# Altium schematic symbol library ESP.SchLib: 22 symbols
Pins are listed as number, name and electrical type; pins without a type are passive.

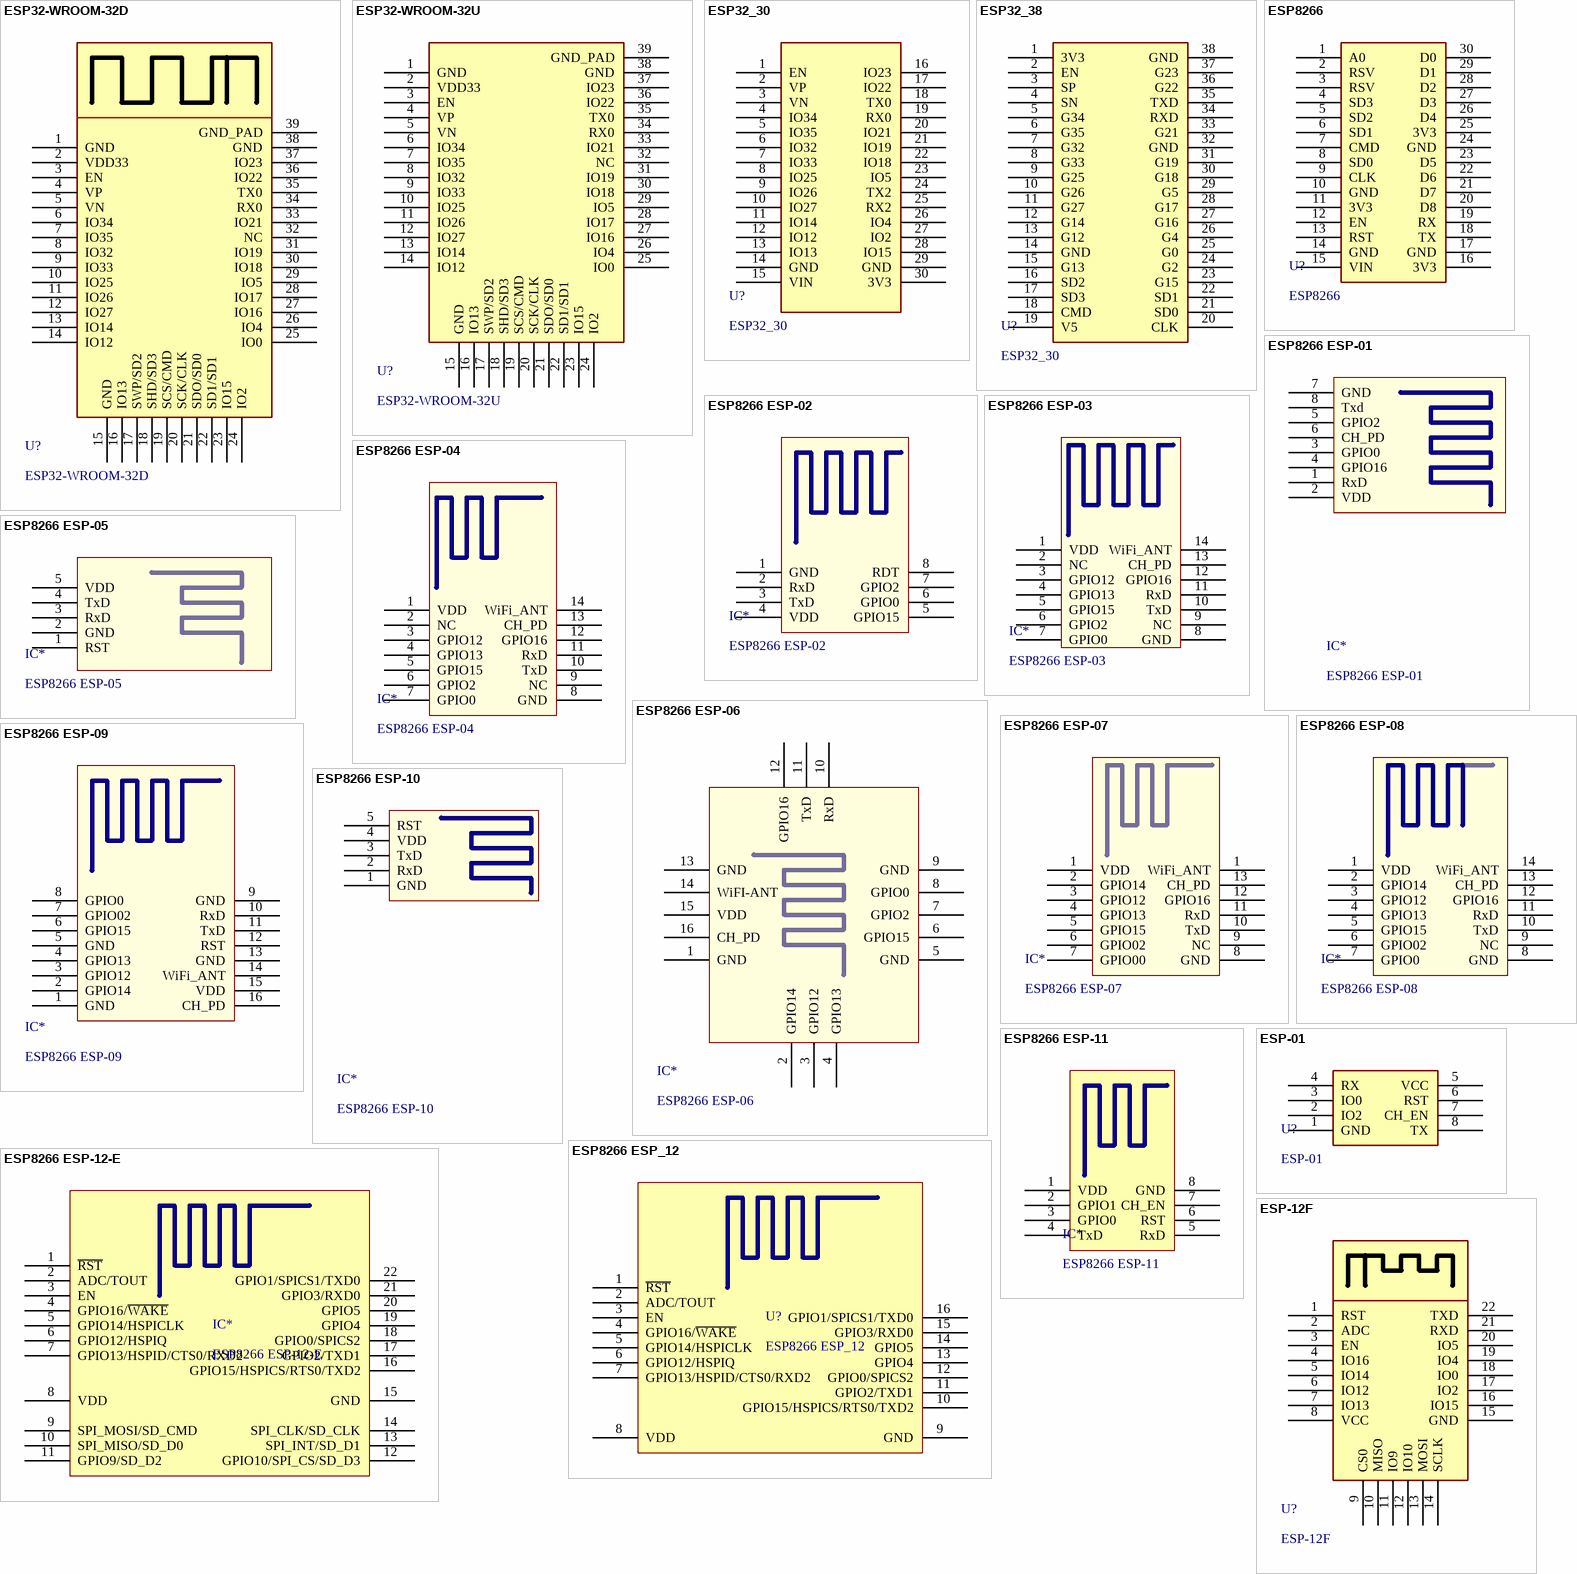
[diagram p0: symbols ESP32-WROOM-32D to ESP-12F]

## ESP32-WROOM-32D
designator U?
Chip SMD 39 Pads Wifi 2.4GHz BLE 4.2 18x25.5mm w/ Antenna.; Mouser PN: ESP32-WROOM-32D-N4; Digikey PN: 1965-ESP32-WROOM-32D-N8CT-ND; ComponentLink1Description: Datasheet; ComponentLink1URL: https://www.mouser.com/datasheet/2/891/esp32_wroom_32d_esp32_wroom_32u_datasheet_en-1365844.pdf; JLCPCB PN: C82899
footprint ESP32-WROOM-32D (Chip SMD 39 Pads 18x25.5mm w/ Antenna.)
pins: 1 GND, 2 VDD33, 3 EN, 4 VP, 5 VN, 6 IO34, 7 IO35, 8 IO32, 9 IO33, 10 IO25, 11 IO26, 12 IO27, 13 IO14, 14 IO12, 15 GND, 16 IO13, 17 SWP/SD2, 18 SHD/SD3, 19 SCS/CMD, 20 SCK/CLK, 21 SDO/SD0, 22 SD1/SD1, 23 IO15, 24 IO2, 25 IO0, 26 IO4, 27 IO16, 28 IO17, 29 IO5, 30 IO18, 31 IO19, 32 NC, 33 IO21, 34 RX0, 35 TX0, 36 IO22, 37 IO23, 38 GND, 39 GND_PAD

## ESP32-WROOM-32U
designator U?
Chip SMD 39 Pads Wifi 2.4GHz BLE 4.2 18x19.2mm w/o Antenna.
footprint ESP32-WROOM-32U (Chip SMD 39 Pads 18x19.2mm w/o Antenna.)
pins: 1 GND, 2 VDD33, 3 EN, 4 VP, 5 VN, 6 IO34, 7 IO35, 8 IO32, 9 IO33, 10 IO25, 11 IO26, 12 IO27, 13 IO14, 14 IO12, 15 GND, 16 IO13, 17 SWP/SD2, 18 SHD/SD3, 19 SCS/CMD, 20 SCK/CLK, 21 SDO/SD0, 22 SD1/SD1, 23 IO15, 24 IO2, 25 IO0, 26 IO4, 27 IO16, 28 IO17, 29 IO5, 30 IO18, 31 IO19, 32 NC, 33 IO21, 34 RX0, 35 TX0, 36 IO22, 37 IO23, 38 GND, 39 GND_PAD

## ESP32_30
designator U?
Microcontoller Board 30 Pins Wifi 2.4GHz BLE 4.2 ESP32-WROOM-32D; ComponentLink1Description: Datasheet; ComponentLink1URL: https://www.mouser.com/datasheet/2/891/esp32_wroom_32d_esp32_wroom_32u_datasheet_en-1365844.pdf
footprint ESP32_30 (Microcontoller Board 30 Pins Wifi 2.4GHz BLE 4.2 ESP32-WROOM-32D)
pins: 1 EN, 2 VP, 3 VN, 4 IO34, 5 IO35, 6 IO32, 7 IO33, 8 IO25, 9 IO26, 10 IO27, 11 IO14, 12 IO12, 13 IO13, 14 GND, 15 VIN, 16 IO23, 17 IO22, 18 TX0, 19 RX0, 20 IO21, 21 IO19, 22 IO18, 23 IO5, 24 TX2, 25 RX2, 26 IO4, 27 IO2, 28 IO15, 29 GND, 30 3V3

## ESP32_38
designator U?, comment ESP32_30
Microcontoller Board 38 Pins Wifi 2.4GHz BLE 4.2 ESP32-WROOM-32D; ComponentLink1Description: Datasheet; ComponentLink1URL: https://www.mouser.com/datasheet/2/891/esp32_wroom_32d_esp32_wroom_32u_datasheet_en-1365844.pdf
footprint ESP32_38 (Microcontoller Board 38 Pins Wifi 2.4GHz BLE 4.2 ESP32-WROOM-32D)
pins: 1 3V3, 2 EN, 3 SP, 4 SN, 5 G34, 6 G35, 7 G32, 8 G33, 9 G25, 10 G26, 11 G27, 12 G14, 13 G12, 14 GND, 15 G13, 16 SD2, 17 SD3, 18 CMD, 19 V5, 20 CLK, 21 SD0, 22 SD1, 23 G15, 24 G2, 25 G0, 26 G4, 27 G16, 28 G17, 29 G5, 30 G18, 31 G19, 32 GND, 33 G21, 34 RXD, 35 TXD, 36 G22, 37 G23, 38 GND

## ESP8266
designator U?
Microcontoller Board 30 Pins Wifi 2.4GHz BLE 4.2 ESP-12F; ComponentLink1Description: Datasheet; ComponentLink1URL: https://docs.ai-thinker.com/_media/esp8266/docs/esp-12f_product_specification_en.pdf
footprint ESP8266 (Microcontoller Board 30 Pins Wifi 2.4GHz BLE 4.2 ESP-12F)
pins: 1 A0, 2 RSV, 3 RSV, 4 SD3, 5 SD2, 6 SD1, 7 CMD, 8 SD0, 9 CLK, 10 GND, 11 3V3, 12 EN, 13 RST, 14 GND, 15 VIN, 16 3V3, 17 GND, 18 TX, 19 RX, 20 D8, 21 D7, 22 D6, 23 D5, 24 GND, 25 3V3, 26 D4, 27 D3, 28 D2, 29 D1, 30 D0

## ESP8266 ESP-01
designator IC*
footprint ESP8266 ESP-01
pins: 1 RxD, 2 VDD, 3 GPIO0, 4 GPIO16, 5 GPIO2, 6 CH_PD, 7 GND, 8 Txd

## ESP8266 ESP-02
designator IC*
footprint ESP8266 ESP-02
pins: 1 GND, 2 RxD, 3 TxD, 4 VDD, 5 GPIO15, 6 GPIO0, 7 GPIO2, 8 RDT

## ESP8266 ESP-03
designator IC*
footprint ESP8266 ESP-03
pins: 1 VDD, 2 NC, 3 GPIO12, 4 GPIO13, 5 GPIO15, 6 GPIO2, 7 GPIO0, 8 GND, 9 NC, 10 TxD, 11 RxD, 12 GPIO16, 13 CH_PD, 14 WiFi_ANT

## ESP8266 ESP-04
designator IC*
footprint ESP8266 ESP-04
pins: 1 VDD, 2 NC, 3 GPIO12, 4 GPIO13, 5 GPIO15, 6 GPIO2, 7 GPIO0, 8 GND, 9 NC, 10 TxD, 11 RxD, 12 GPIO16, 13 CH_PD, 14 WiFi_ANT

## ESP8266 ESP-05
designator IC*
footprint ESP8266 ESP-05
pins: 1 RST, 2 GND, 3 RxD, 4 TxD, 5 VDD

## ESP8266 ESP-06
designator IC*
footprint ESP8266 ESP-06
pins: 1 GND, 2 GPIO14, 3 GPIO12, 4 GPIO13, 5 GND, 6 GPIO15, 7 GPIO2, 8 GPIO0, 9 GND, 10 RxD, 11 TxD, 12 GPIO16, 13 GND, 14 WiFI-ANT, 15 VDD, 16 CH_PD

## ESP8266 ESP-07
designator IC*
footprint ESP8266 ESP-07 (ESP8266 ESP-01)
pins: 1 VDD (power), 1 WiFi_ANT, 2 GPIO14, 3 GPIO12, 4 GPIO13, 5 GPIO15, 6 GPIO02, 7 GPIO00, 8 GND, 9 NC, 10 TxD, 11 RxD, 12 GPIO16, 13 CH_PD

## ESP8266 ESP-08
designator IC*
footprint ESP8266 ESP-08
pins: 1 VDD (power), 2 GPIO14, 3 GPIO12, 4 GPIO13, 5 GPIO15, 6 GPIO02, 7 GPIO0, 8 GND, 9 NC, 10 TxD, 11 RxD, 12 GPIO16, 13 CH_PD, 14 WiFi_ANT

## ESP8266 ESP-09
designator IC*
footprint ESP8266 ESP-09
pins: 1 GND (power), 2 GPIO14, 3 GPIO12, 4 GPIO13, 5 GND (power), 6 GPIO15, 7 GPIO02, 8 GPIO0, 9 GND (power), 10 RxD, 11 TxD, 12 RST, 13 GND (power), 14 WiFi_ANT, 15 VDD (power), 16 CH_PD

## ESP8266 ESP-10
designator IC*
footprint ESP8266 ESP-10
pins: 1 GND, 2 RxD, 3 TxD, 4 VDD, 5 RST

## ESP8266 ESP-11
designator IC*
footprint ESP8266 ESP-11
pins: 1 VDD, 2 GPIO1, 3 GPIO0, 4 TxD, 5 RxD, 6 RST, 7 CH_EN, 8 GND

## ESP8266 ESP-12-E
designator IC*
footprint ESP8266 ESP-12-E
pins: 1 ~{RST} "Reset", 2 ADC/TOUT "ADC Input Or TOUT Output", 3 EN "Chip enable", 4 GPIO16/~{WAKE} "GPIO16 or Deep-Sleep Wakeup", 5 GPIO14/HSPICLK "GPIO14 or SPI CLK", 6 GPIO12/HSPIQ "GPIO12 or SPIQ", 7 GPIO13/HSPID/CTS0/RXD2 "GPIO13 or SPID", 8 VDD "Power supply", 9 SPI_MOSI/SD_CMD "GPIO14 or SPI CLK", 10 SPI_MISO/SD_D0 "GPIO12 or SPIQ", 11 GPIO9/SD_D2 "GPIO13 or SPID", 12 GPIO10/SPI_CS/SD_D3 "GPIO15 or SPICS", 13 SPI_INT/SD_D1 "GPIO2 or TX", 14 SPI_CLK/SD_CLK "GPIO0 or SPICS2", 15 GND "Power ground", 16 GPIO15/HSPICS/RTS0/TXD2 "GPIO15 or SPICS", 17 GPIO2/TXD1 "GPIO2 or TX", 18 GPIO0/SPICS2 "GPIO0 or SPICS2", 19 GPIO4 "GPIO5", 20 GPIO5 "GPIO4", 21 GPIO3/RXD0 "GPIO3 or UART RXD", 22 GPIO1/SPICS1/TXD0 "GPIO1 or UART TXD"

## ESP8266 ESP_12
designator U?
ESP8266 ESP-12; IC: ESP8266-EX; Vendor: Ai-thinker; LatestReviewer: Zion Blue; Published: 14-Apr-2015; Publisher: Cynetik Group; LatestRevisionData: 14-Apr-2015; LatestRevisionNote: Include 3D body and Footprint
footprint ESP8266 ESP_12 (ESP8266 ESP-12)
pins: 1 ~{RST} "Reset", 2 ADC/TOUT "ADC Input Or TOUT Output", 3 EN "Chip enable", 4 GPIO16/~{WAKE} "GPIO16 or Deep-Sleep Wakeup", 5 GPIO14/HSPICLK "GPIO14 or SPI CLK", 6 GPIO12/HSPIQ "GPIO12 or SPIQ", 7 GPIO13/HSPID/CTS0/RXD2 "GPIO13 or SPID", 8 VDD "Power supply", 9 GND "Power ground", 10 GPIO15/HSPICS/RTS0/TXD2 "GPIO15 or SPICS", 11 GPIO2/TXD1 "GPIO2 or TX", 12 GPIO0/SPICS2 "GPIO0 or SPICS2", 13 GPIO4 "GPIO5", 14 GPIO5 "GPIO4", 15 GPIO3/RXD0 "GPIO3 or UART RXD", 16 GPIO1/SPICS1/TXD0 "GPIO1 or UART TXD"

## ESP-01
designator U?
Microcontoller Board 8 Pins Wifi 2.4GHz BLE 4.2 ESP8266EX; ComponentLink1Description: Datasheet; ComponentLink1URL: https://www.espressif.com/sites/default/files/documentation/0a-esp8266ex_datasheet_en.pdf
footprint ESP-01 (Microcontoller Board 8 Pins Wifi 2.4GHz BLE 4.2 ESP8266EX)
pins: 1 GND, 2 IO2, 3 IO0, 4 RX, 5 VCC, 6 RST, 7 CH_EN, 8 TX

## ESP-12F
designator U?
Chip SMD 22 Pads Wifi 2.4GHz BLE 4.2 16x24mm w/ Antenna.; ComponentLink1Description: Datasheet; ComponentLink1URL: https://docs.ai-thinker.com/_media/esp8266/docs/esp-12f_product_specification_en.pdf; JLCPCB PN: C82891
footprint ESP-12F (Chip SMD 22 Pads 16x24mm w/ Antenna.)
pins: 1 RST, 2 ADC, 3 EN, 4 IO16, 5 IO14, 6 IO12, 7 IO13, 8 VCC, 9 CS0, 10 MISO, 11 IO9, 12 IO10, 13 MOSI, 14 SCLK, 15 GND, 16 IO15, 17 IO2, 18 IO0, 19 IO4, 20 IO5, 21 RXD, 22 TXD

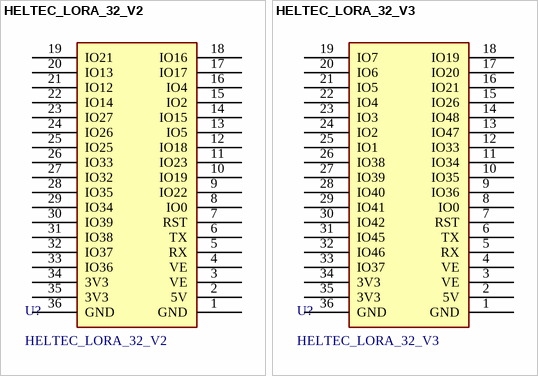
[diagram p1: symbols HELTEC_LORA_32_V2 to HELTEC_LORA_32_V3]

## HELTEC_LORA_32_V2
designator U?
Heltec Lora 32 V2, 36 Pins.
footprint HELTEC_LORA_32_V2_V3 (Heltec Lora 32 36 Pins)
pins: 1 GND, 2 5V, 3 VE, 4 VE, 5 RX, 6 TX, 7 RST, 8 IO0, 9 IO22, 10 IO19, 11 IO23, 12 IO18, 13 IO5, 14 IO15, 15 IO2, 16 IO4, 17 IO17, 18 IO16, 19 IO21, 20 IO13, 21 IO12, 22 IO14, 23 IO27, 24 IO26, 25 IO25, 26 IO33, 27 IO32, 28 IO35, 29 IO34, 30 IO39, 31 IO38, 32 IO37, 33 IO36, 34 3V3, 35 3V3, 36 GND

## HELTEC_LORA_32_V3
designator U?
Heltec Lora 32 V3, 36 Pins.
footprint HELTEC_LORA_32_V2_V3 (Heltec Lora 32 36 Pins)
pins: 1 GND, 2 5V, 3 VE, 4 VE, 5 RX, 6 TX, 7 RST, 8 IO0, 9 IO36, 10 IO35, 11 IO34, 12 IO33, 13 IO47, 14 IO48, 15 IO26, 16 IO21, 17 IO20, 18 IO19, 19 IO7, 20 IO6, 21 IO5, 22 IO4, 23 IO3, 24 IO2, 25 IO1, 26 IO38, 27 IO39, 28 IO40, 29 IO41, 30 IO42, 31 IO45, 32 IO46, 33 IO37, 34 3V3, 35 3V3, 36 GND